# EAGLE library part LMD18245 (library lm2576)
DMOS Full-Bridge Motor Driver Handles 3A of continous current at up to 55V. Provides digital current control to facilitate microstepping. Temp range -40 to 125 C
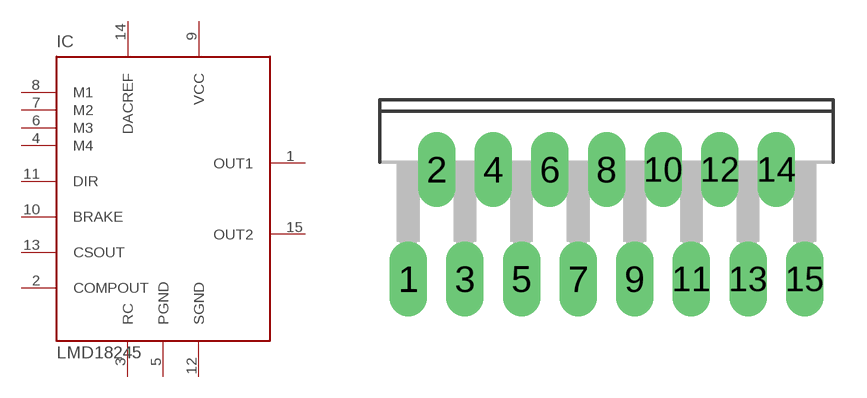
[diagram p3: symbol with the pads of TO220-15; footprint TO220-15]

Designator prefix IC

## LMD18245T  [TO220-15]
1  OUT1  out
2  COMPOUT  out
3  RC
4  M4
5  PGND  pwr
6  M3
7  M2
8  M1
9  VCC  pwr
10  BRAKE  in
11  DIR  in
12  SGND  pwr
13  CSOUT  out
14  DACREF  in
15  OUT2  out

## Footprint TO220-15 (pad centres in mm)
15-pin TO220 Molded Package, standing
drill 1.118 pad 1.626 long: 1 -8.89,-8.036; 2 -7.62,-3.126; 3 -6.35,-8.036; 4 -5.08,-3.126; 5 -3.81,-8.036; 6 -2.54,-3.126; 7 -1.27,-8.036; 8 0,-3.126; 9 1.27,-8.036; 10 2.54,-3.126; 11 3.81,-8.036; 12 5.08,-3.126; 13 6.35,-8.036; 14 7.62,-3.126; 15 8.89,-8.036